# Altium footprint library BLUETOOTH-SERIAL-HC-06.PCBLIB: 1 footprints
Each footprint in its own frame and in the unit in brackets; x right, y up, seen from the top. Pads: shape width x height; smd on the part's side, far side on the other; paste and mask are expansions set on the pad; w line width, h text height; cw(c..) or ccw(c..) is an arc to the next point about the centre after c.
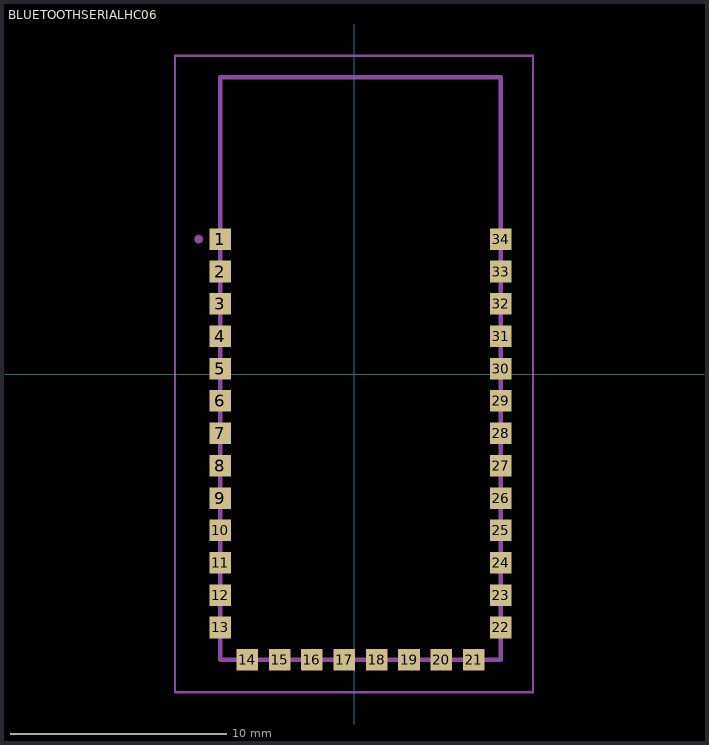
[diagram p0: the footprint, top view; thin cyan lines are the x and y axes]

## BLUETOOTHSERIALHC06 [mm]
pads (34):
  rect 1x1 smd: 1(-6.2,6.25) 2(-6.2,4.75) 3(-6.2,3.25) 4(-6.2,1.75) 5(-6.2,0.25) 6(-6.2,-1.25) 7(-6.2,-2.75) 8(-6.2,-4.25) 9(-6.2,-5.75) 10(-6.2,-7.25) 11(-6.2,-8.75) 12(-6.2,-10.25) 13(-6.2,-11.75) 14(-4.95,-13.25) 15(-3.45,-13.25) 16(-1.95,-13.25) 17(-0.45,-13.25) 18(1.05,-13.25) 19(2.55,-13.25) 20(4.05,-13.25) 21(5.55,-13.25) 22(6.8,-11.75) 23(6.8,-10.25) 24(6.8,-8.75) 25(6.8,-7.25) 26(6.8,-5.75) 27(6.8,-4.25) 28(6.8,-2.75) 29(6.8,-1.25) 30(6.8,0.25) 31(6.8,1.75) 32(6.8,3.25) 33(6.8,4.75) 34(6.8,6.25)
Assembly Top:
  lines w0.1: -8.3,-14.75 -8.3,14.75 8.3,14.75 8.3,-14.75 -8.3,-14.75
  lines w0.2: -6.2,-13.25 -6.2,13.75 6.8,13.75 6.8,-13.25 -6.2,-13.25
Mechanical 22:
  lines w0.1: -6.2,-12.75 -6.2,-13.25 -5.7,-13.25 ; -6.2,7.25 -6.2,13.75 6.8,13.75 6.8,7.25 ; 6.3,-13.25 6.8,-13.25 6.8,-12.75
  lines w0.2: -7.2,6.15 cw(c-7.2,6.25) -7.2,6.35 cw(c-7.2,6.25) -7.2,6.15
3D body: height 2.1, standoff 0, extent -6.2,-13.25 6.8,13.75